# Altium footprint library PcbLib1.PcbLib: 5 footprints
Each footprint in its own frame and in the unit in brackets; x right, y up, seen from the top. Pads: shape width x height; smd on the part's side, far side on the other; paste and mask are expansions set on the pad; w line width, h text height; cw(c..) or ccw(c..) is an arc to the next point about the centre after c.
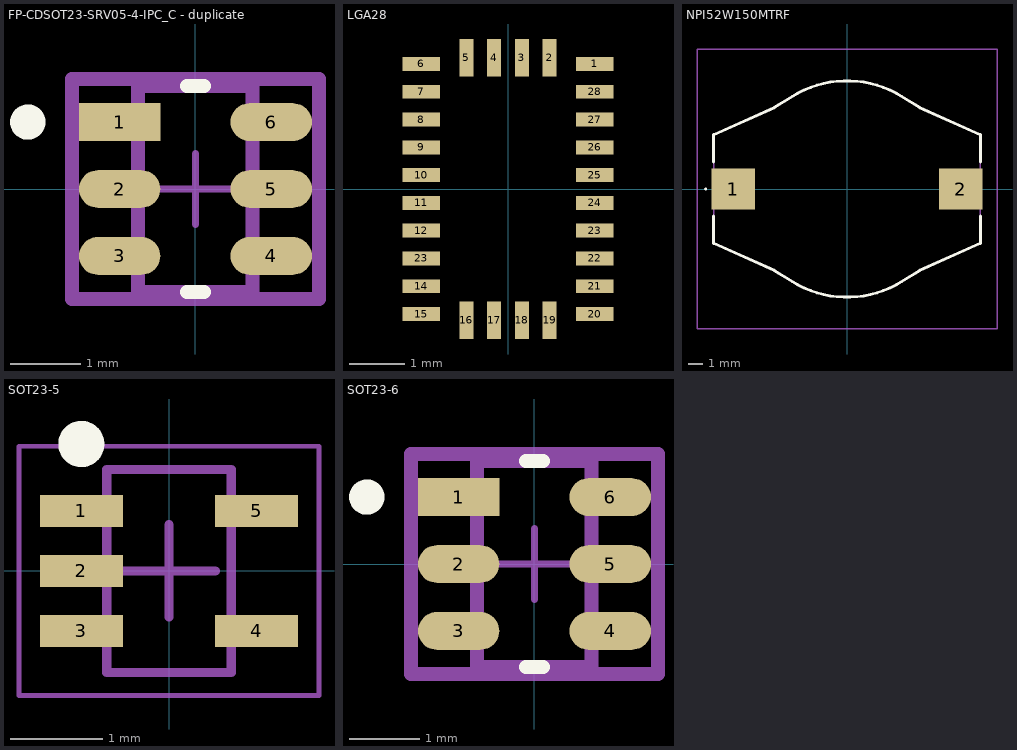
[diagram p0: the footprints below, top view; thin cyan lines are the x and y axes]

## FP-CDSOT23-SRV05-4-IPC_C - duplicate [mm]
pads (6):
  rect 1.156x0.536 smd paste+0 mask+0: 1(-1.075,0.95)
  rrect100% 1.156x0.536 smd paste+0 mask+0: 2(-1.075,0) 3(-1.075,-0.95) 4(1.075,-0.95) 5(1.075,0) 6(1.075,0.95)
Top Overlay:
  circle w0.25: c-2.378,0.95 r0.125
  lines w0.2: -0.122,-1.462 0.122,-1.462 ; -0.122,1.462 0.122,1.462
Top 3D Body:
  lines w0.2: -0.813,-1.462 0.813,-1.462 0.813,1.462 -0.813,1.462 -0.813,-1.462
Top Assembly:
  lines w0.2: -1.753,-1.562 1.753,-1.562 1.753,1.562 -1.753,1.562 -1.753,-1.562
  text ".Designator" at 0,0.188 h1
Top Courtyard:
  lines w0.2: -1.753,-1.562 1.753,-1.562 1.753,1.562 -1.753,1.562 -1.753,-1.562
Top Component Center:
  lines w0.1: -0.5,0 0.5,0 ; 0,-0.5 0,0.5
3D body "Diode_Bourns_Inc_CDSOT23-SRV05-4_eec.STEP": height 0.25, standoff 0, extent -1.753,-1.562 1.753,1.562

## LGA28 [mm]
pads (28):
  rect 0.675x0.25 smd: 1(1.562,2.25) 6(-1.562,2.25) 7(-1.562,1.75) 8(-1.562,1.25) 9(-1.562,0.75) 10(-1.562,0.25) 11(-1.562,-0.25) 12(-1.562,-0.75) 14(-1.562,-1.75) 15(-1.562,-2.25) 20(1.562,-2.25) 21(1.562,-1.75) 22(1.562,-1.25) 23(-1.562,-1.25) 23(1.562,-0.75) 24(1.562,-0.25) 25(1.562,0.25) 26(1.562,0.75) 27(1.562,1.25) 28(1.562,1.75)
  rect 0.25x0.675 smd: 2(0.75,2.362) 3(0.25,2.362) 4(-0.25,2.362) 5(-0.75,2.362) 16(-0.75,-2.362) 17(-0.25,-2.362) 18(0.25,-2.362) 19(0.75,-2.362)
3D body "LGA-28_5.2x3.8mm_P0.5mm.step": height 1.02, standoff 0, extent -1.9,-2.6 1.9,2.6

## NPI52W150MTRF [mm]
pads (2):
  rect 3x2.8 smd: 1(-7.85,0) 2(7.85,0)
Top Overlay:
  lines w0.1: -9.8,0 cw(c-9.75,0) -9.7,0 cw(c-9.75,0) -9.8,0
  lines w0.2: -9.2,-1.875 -9.2,-3.75 -5,-5.625 -3.75,-6.4 ; -9.2,1.875 -9.2,3.75 -5,5.625 -3.75,6.4 ; -3.75,-6.4 ccw(c0,-0.352) 3.75,-6.4 ; -3.75,6.4 cw(c0,0.352) 3.75,6.4 ; 3.75,-6.4 5,-5.625 9.2,-3.75 9.2,-1.875 ; 3.75,6.4 5,5.625 9.2,3.75 9.2,1.875
Mechanical 15:
  lines w0.1: -3.75,-6.4 ccw(c0,-0.352) 3.75,-6.4 ; -3.75,-6.4 -5,-5.625 -9.2,-3.75 -9.2,3.75 -5,5.625 -3.75,6.4 ; -3.75,6.4 cw(c0,0.352) 3.75,6.4 ; 3.75,-6.4 5,-5.625 9.2,-3.75 9.2,3.75 5,5.625 3.75,6.4
Mechanical 20:
  lines w0.1: -10.35,-9.657 -10.35,9.657 10.35,9.657 10.35,-9.657 -10.35,-9.657

## SOT23-5 [mm] "SOT23, 5-Leads, Body 2x1.25mm, Pitch 0.65mm, IPC Medium Density"
height 1.1
pads (5):
  rect 0.9x0.35 smd: 1(-0.95,0.65) 2(-0.95,0) 3(-0.95,-0.65) 4(0.95,-0.65) 5(0.95,0.65)
Top Overlay:
  circle w0.25: c-0.95,1.375 r0.125
Mechanical 13:
  lines w0.1: -0.675,-1.1 0.675,-1.1 0.675,1.1 -0.675,1.1 -0.675,-1.1
Mechanical 15:
  lines w0.05: -1.625,-1.35 1.625,-1.35 1.625,1.35 -1.625,1.35 -1.625,-1.35
  lines w0.1: -0.5,0 0.5,0 ; 0,-0.5 0,0.5
3D body: height 1.1, standoff 0.1, extent -0.675,-1.1 0.675,1.1

## SOT23-6 [mm]
pads (6):
  rect 1.156x0.536 smd paste+0 mask+0: 1(-1.075,0.95)
  rrect100% 1.156x0.536 smd paste+0 mask+0: 2(-1.075,0) 3(-1.075,-0.95) 4(1.075,-0.95) 5(1.075,0) 6(1.075,0.95)
Top Overlay:
  circle w0.25: c-2.378,0.95 r0.125
  lines w0.2: -0.122,-1.462 0.122,-1.462 ; -0.122,1.462 0.122,1.462
Top 3D Body:
  lines w0.2: -0.813,-1.462 -0.813,1.462 0.813,1.462 0.813,-1.462 -0.813,-1.462
Top Assembly:
  lines w0.2: -1.753,-1.562 -1.753,1.562 1.753,1.562 1.753,-1.562 -1.753,-1.562
  text ".Designator" at 0,0.188 h1
Top Courtyard:
  lines w0.2: -1.753,-1.562 -1.753,1.562 1.753,1.562 1.753,-1.562 -1.753,-1.562
Top Component Center:
  lines w0.1: -0.5,0 0.5,0 ; 0,-0.5 0,0.5
3D body "LMR51610XFDBVR.stp": height 1.45, standoff 0, extent -1.4,-1.45 1.4,1.45